# EAGLE library part OPAX30X (library DAC)
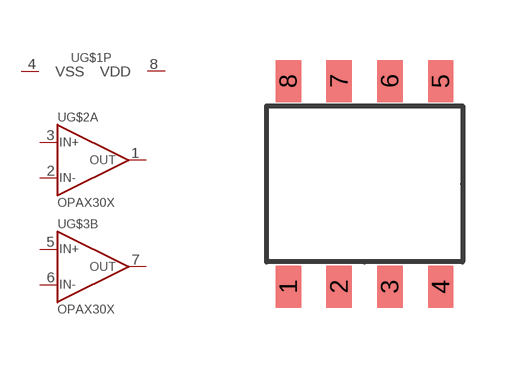
[diagram p27: symbol with the pads of TI-D; footprint TI-D]

Designator prefix U; gates G$1P=PWR2 G$2A=MULTIOPAMP G$3B=MULTIOPAMP

## OPAX30X  [TI-D]
1  G$2A:OUT  out
2  G$2A:IN-  in
3  G$2A:IN+  in
4  G$1P:VSS  pwr
5  G$3B:IN+  in
6  G$3B:IN-  in
7  G$3B:OUT  out
8  G$1P:VDD  pwr

## Footprint TI-D (pad centres in mm)
smd 0.635 x 1.05: 1 -1.905,-2.57; 2 -0.635,-2.57; 3 0.635,-2.57; 4 1.905,-2.57; 5 1.905,2.57; 6 0.635,2.57; 7 -0.635,2.57; 8 -1.905,2.57